# Altium schematic symbol library POGO_SPI.SchLib: 1 symbol
Pins are listed as number, name and electrical type; pins without a type are passive.

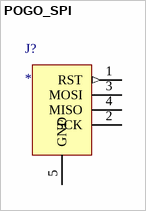
[diagram p0: symbol POGO_SPI]

## POGO_SPI
designator J?
4-pin Pogo Lands for SPI + RST for AVR Programming
pins: 1 RST (out), 2 SCK, 3 MOSI, 4 MISO, 5 GND (power)